# EAGLE library part TUSB2046B (library PP_DigitalIC)
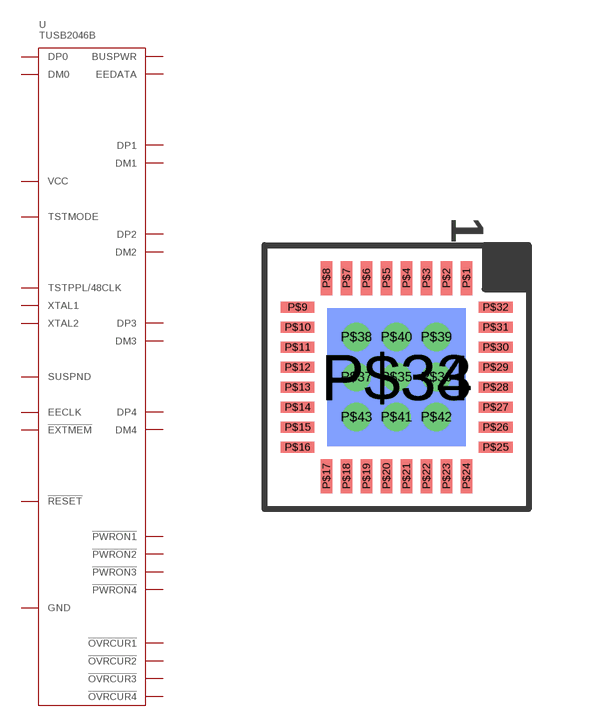
[diagram p35: symbol with the pads of TUSB2046B_VQFN-32; footprint TUSB2046B_VQFN-32]

Designator prefix U

## TUSB2046B  [TUSB2046B_VQFN-32]
P$1  DP0
P$2  DM0
P$3  VCC
P$4  !RESET
P$5  EECLK
P$6  EEDATA
P$7  GND
P$8  BUSPWR
P$9  !PWRON1
P$10  !OVRCUR1
P$11  DM1
P$12  DP1
P$13  !PWRON2
P$14  !OVRCUR2
P$15  DM2
P$16  DP2
P$17  !PWRON3
P$18  !OVRCUR3
P$19  DM3
P$20  DP3
P$21  !PWRON4
P$22  !OVRCUR4
P$23  DM4
P$24  DP4
P$25  VCC
P$26  !EXTMEM
P$27  TSTPPL/48CLK
P$28  GND
P$29  XTAL2
P$30  XTAL1
P$31  TSTMODE
P$32  SUSPND

## Footprint TUSB2046B_VQFN-32 (pad centres in mm)
smd 0.28 x 0.85: P$1 1.75,2.475; P$2 1.25,2.475; P$3 0.75,2.475; P$4 0.25,2.475; P$5 -0.25,2.475; P$6 -0.75,2.475; P$7 -1.25,2.475; P$8 -1.75,2.475; P$17 -1.75,-2.475; P$18 -1.25,-2.475; P$19 -0.75,-2.475; P$20 -0.25,-2.475; P$21 0.25,-2.475; P$22 0.75,-2.475; P$23 1.25,-2.475; P$24 1.75,-2.475
smd 0.85 x 0.28: P$9 -2.475,1.75; P$10 -2.475,1.25; P$11 -2.475,0.75; P$12 -2.475,0.25; P$13 -2.475,-0.25; P$14 -2.475,-0.75; P$15 -2.475,-1.25; P$16 -2.475,-1.75; P$25 2.475,-1.75; P$26 2.475,-1.25; P$27 2.475,-0.75; P$28 2.475,-0.25; P$29 2.475,0.25; P$30 2.475,0.75; P$31 2.475,1.25; P$32 2.475,1.75
smd 3.45 x 3.45: P$33 0,0
smd 3.45 x 3.45 bottom: P$34 0,0
drill 0.2 pad 0.254: P$35 0,0; P$36 1,0; P$37 -1,0; P$38 -1,1; P$39 1,1; P$40 0,1; P$41 0,-1; P$42 1,-1; P$43 -1,-1